# Altium integrated library BSS84AKS.IntLib: 1 symbol
Pins are listed as number, name and electrical type; pins without a type are passive.

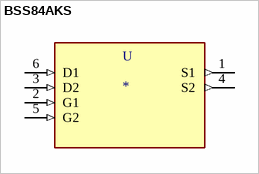
[diagram p0: symbol BSS84AKS]

## BSS84AKS
designator U
Mosfet Array 2 P-Channel (Dual) 50V 160mA 445mW Surface Mount 6-TSSOP; MF: NXP Semiconductors; MP: BSS84AKS; SnapEDA_Link: https://www.snapeda.com/parts/BSS84AKS/NXP%20Semiconductors/view-part/4477269/?ref=snap; Package: SOT-363 NXP Semiconductors; Value: *
footprint SOT65P210X110-6N
pins: 1 S1 (out), 2 G1 (in), 3 D2 (in), 4 S2 (out), 5 G2 (in), 6 D1 (in)